# EAGLE library part DS3231 (library #PaJa_31)
RTC
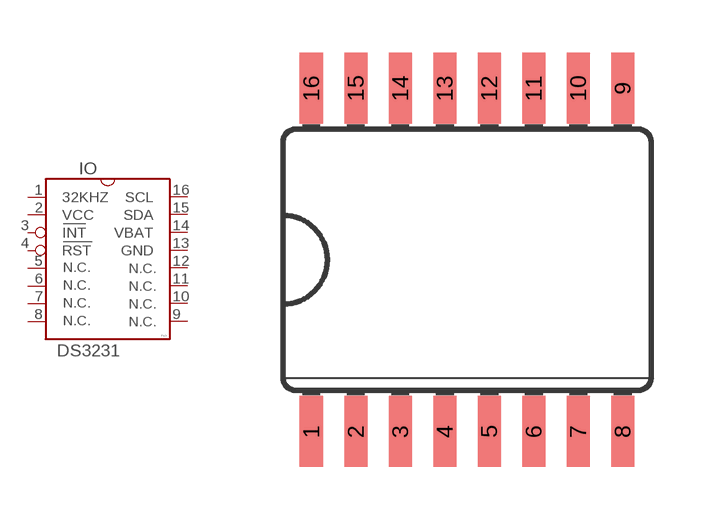
[diagram p66: symbol with the pads of SO16L; footprint SO16L]

Designator prefix IO

## DS3231  [SO16L]
1  32KHZ  out
2  VCC  pwr
3  INT
4  RST
5  P$1  nc
6  P$2  nc
7  P$3  nc
8  P$4  nc
9  P$5  nc
10  P$6  nc
11  P$7  nc
12  P$8  nc
13  GND  pwr
14  VBAT  pas
15  SDA
16  SCL

## Footprint SO16L (pad centres in mm)
Small Outline Package .300 SIOC Source: http://www.maxim-ic.com/cgi-bin/packages?pkg=16%2FSOIC%2E300&Type=Max
smd 0.66 x 2.032: 1 -4.445,-4.902; 2 -3.175,-4.902; 3 -1.905,-4.902; 4 -0.635,-4.902; 5 0.635,-4.902; 6 1.905,-4.902; 7 3.175,-4.902; 8 4.445,-4.902; 9 4.445,4.902; 10 3.175,4.902; 11 1.905,4.902; 12 0.635,4.902; 13 -0.635,4.902; 14 -1.905,4.902; 15 -3.175,4.902; 16 -4.445,4.902